# Altium footprint library ELEC(6.3X8.0)-AV.PcbLib: 1 footprints
Each footprint in its own frame and in the unit in brackets; x right, y up, seen from the top. Pads: shape width x height; smd on the part's side, far side on the other; paste and mask are expansions set on the pad; w line width, h text height; cw(c..) or ccw(c..) is an arc to the next point about the centre after c.
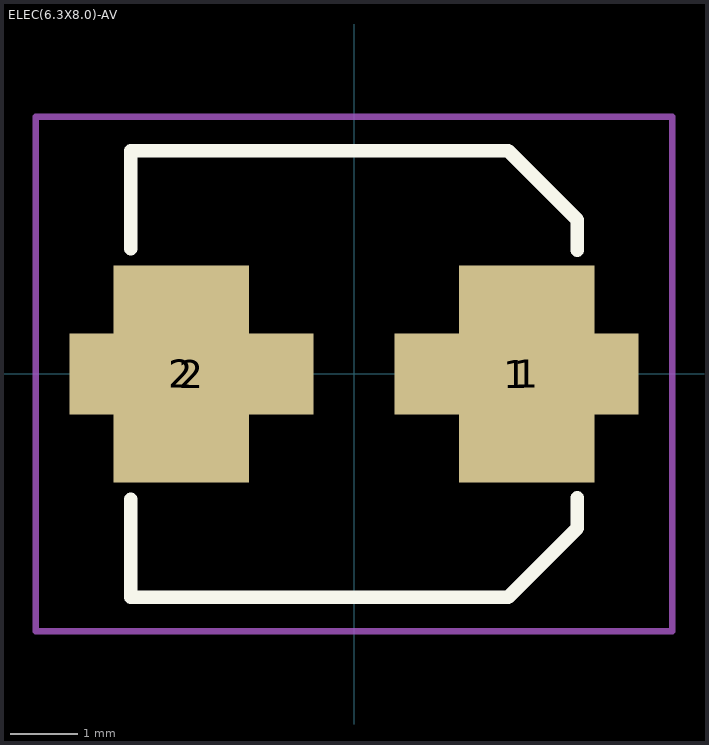
[diagram p0: the footprint, top view; thin cyan lines are the x and y axes]

## ELEC(6.3X8.0)-AV [mm]
pads (4):
  rect 3.6x1.2 smd: 1(2.4,0) 2(-2.4,0)
  rect 2x3.2 smd: 1(2.55,0) 2(-2.55,0)
Top Overlay:
  lines w0.2: -3.3,-1.85 -3.3,-3.3 2.275,-3.3 3.3,-2.275 3.3,-1.825 ; -3.3,1.85 -3.3,3.3 2.275,3.3 3.3,2.275 3.3,1.825
Top Courtyard:
  lines w0.1: -4.7,-0.6 -4.7,-3.8 ; -3.65,-3.8 -4.7,-3.8 ; 3.65,3.8 4.7,3.8 ; 4.7,0.6 4.7,3.8 ; -4.7,-3.8 4.7,-3.8 4.7,3.8 ; -4.7,-3.8 -4.7,3.8 4.7,3.8
3D body "step_temp.STEP": height 8, standoff 0, extent -3.65,-3.3 3.65,3.3